# Altium schematic symbol library Asis OT Library.SchLib: 356 symbols (part 1 of 3)
Pins are listed as number, name and electrical type; pins without a type are passive.

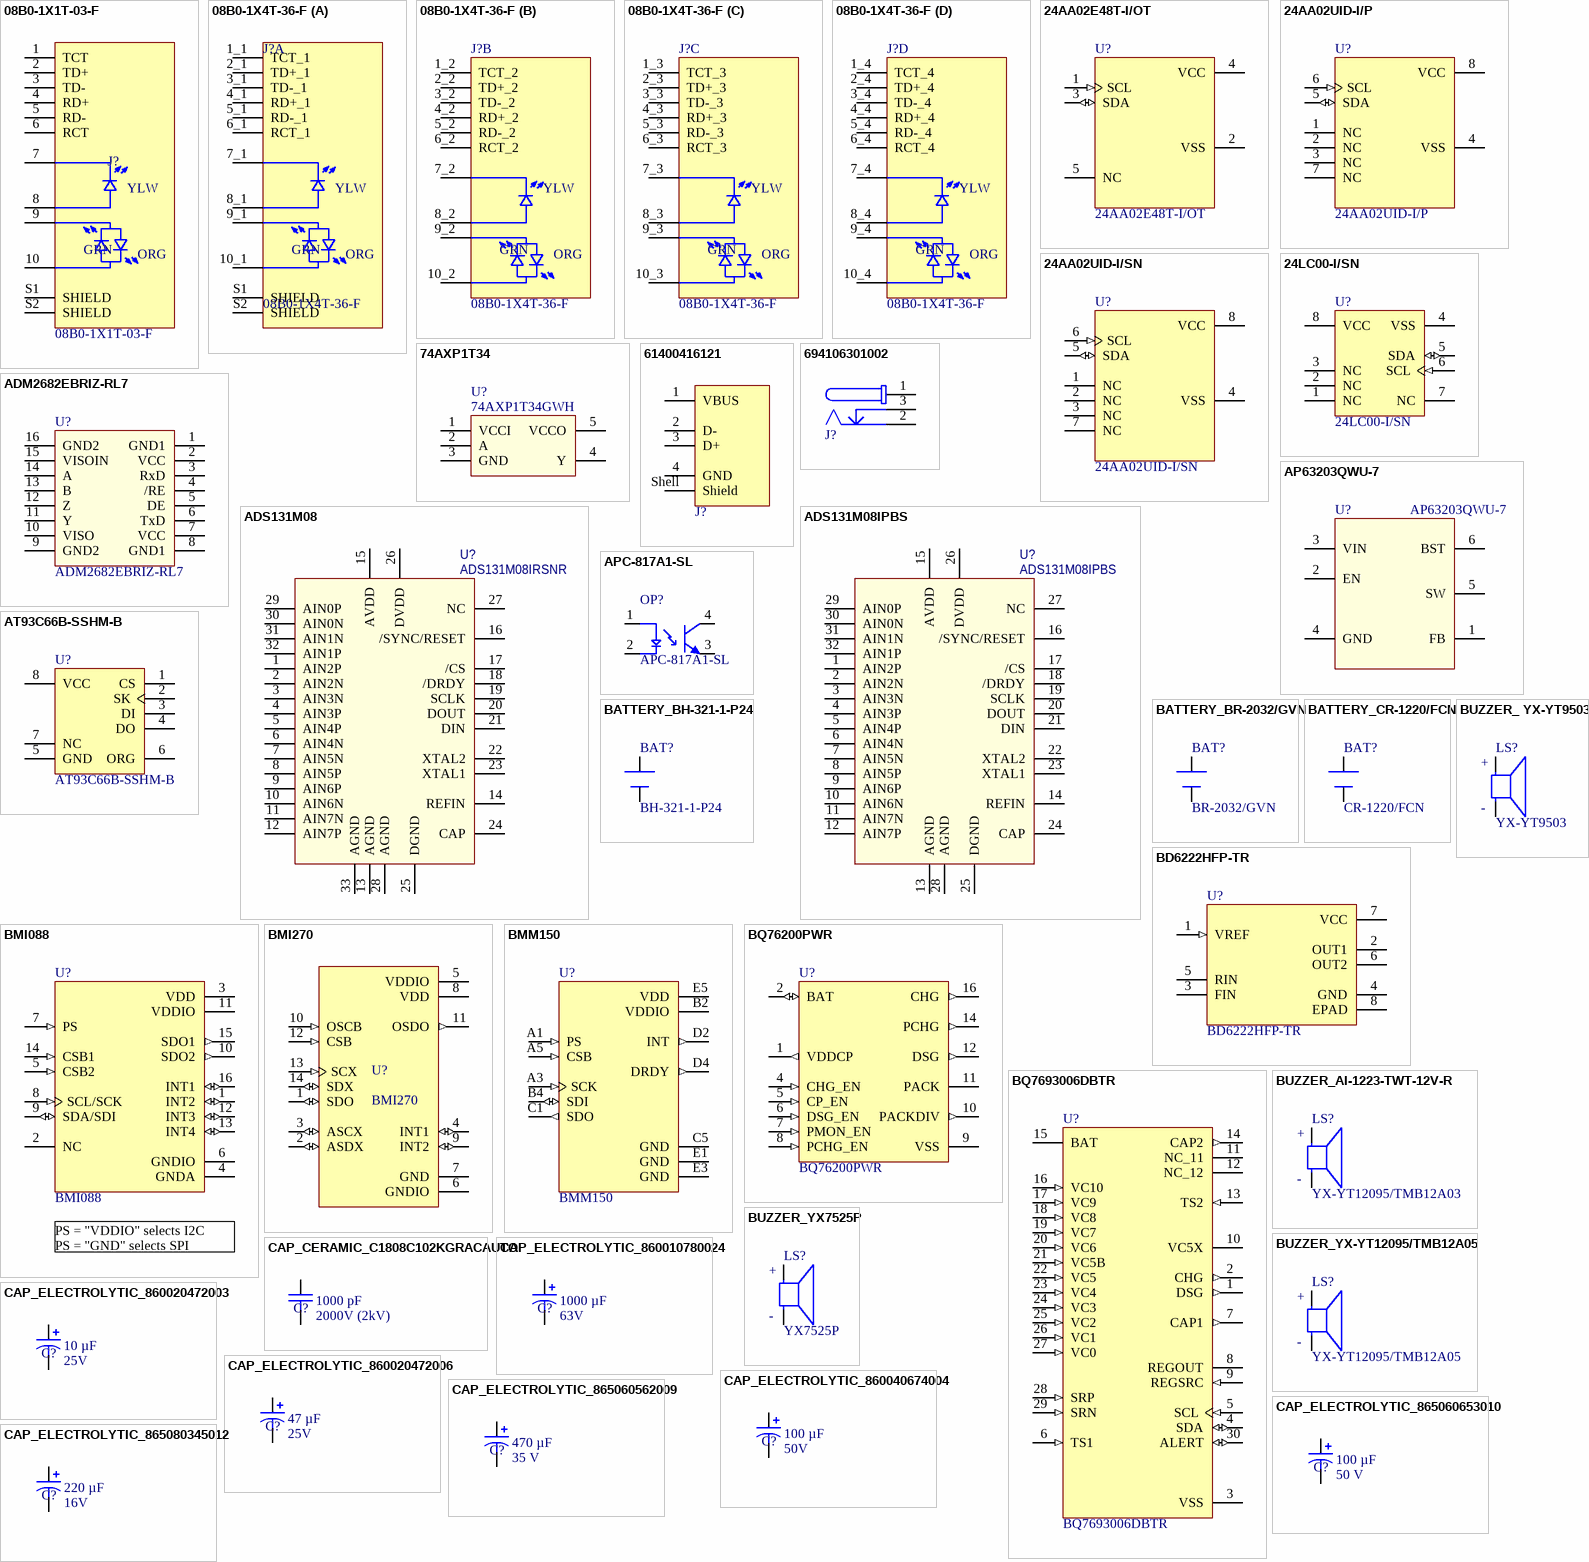
[diagram p0: symbols 08B0-1X1T-03-F to CAP_ELECTROLYTIC_865080345012]

## 08B0-1X1T-03-F
designator J?
CONN JACK 1PORT 100 BASE-T PCB; Manufacturer: Bel Fuse Inc.; Manufacturer Part Number: 08B0-1X1T-03-F; LCSC Part: 08B0-1X1T-03-F
footprint BEL_08B0-1X1T-03-F
pins: 1 TCT, 2 TD+, 3 TD-, 4 RD+, 5 RD-, 6 RCT, 7, 8, 9, 10, S1 SHIELD, S2 SHIELD
text: YLW; GRN; ORG

## 08B0-1X4T-36-F
designator J?
CONN JACK 4PORT 100 BASE-T PCB; Manufacturer: Bel Fuse Inc.; Manufacturer Part Number: 08B0-1X4T-36-F
footprint BEL_08B0-1X4T-36-F
part A pins: 1_1 TCT_1, 2_1 TD+_1, 3_1 TD-_1, 4_1 RD+_1, 5_1 RD-_1, 6_1 RCT_1, 7_1, 8_1, 9_1, 10_1, S1 SHIELD, S2 SHIELD
part B pins: 1_2 TCT_2, 2_2 TD+_2, 3_2 TD-_2, 4_2 RD+_2, 5_2 RD-_2, 6_2 RCT_2, 7_2, 8_2, 9_2, 10_2
part C pins: 1_3 TCT_3, 2_3 TD+_3, 3_3 TD-_3, 4_3 RD+_3, 5_3 RD-_3, 6_3 RCT_3, 7_3, 8_3, 9_3, 10_3
part D pins: 1_4 TCT_4, 2_4 TD+_4, 3_4 TD-_4, 4_4 RD+_4, 5_4 RD-_4, 6_4 RCT_4, 7_4, 8_4, 9_4, 10_4
part A text: YLW; GRN; ORG
part B text: YLW; GRN; ORG
part C text: YLW; GRN; ORG
part D text: YLW; GRN; ORG

## 24AA02E48T-I/OT
designator U?
IC EEPROM 2KBIT I2C SOT23-5; Manufacturer: Microchip Technology; Manufacturer Part Number: 24AA02E48T-I/OT
footprint SOT-23-5 (SC-74A, SOT-753)
pins: 1 SCL (in), 2 VSS (power), 3 SDA (io), 4 VCC (power), 5 NC

## 24AA02UID-I/P
designator U?
IC EEPROM 2KBIT I2C 400KHZ 8DIP; Manufacturer: Microchip Technology; Manufacturer Part Number: 24AA02UID-I/P
footprint 8-DIP (8-DIP (0.300", 7.62mm))
pins: 1 NC, 2 NC, 3 NC, 4 VSS (power), 5 SDA (io), 6 SCL (in), 7 NC, 8 VCC (power)

## 24AA02UID-I/SN
designator U?
IC EEPROM 2KBIT I2C 400KHZ 8SOIC; Manufacturer: Microchip Technology; Manufacturer Part Number: 24AA02UID-I/SN
footprint SOIC-8 (0.154", 3.90mm Width)
pins: 1 NC, 2 NC, 3 NC, 4 VSS (power), 5 SDA (io), 6 SCL (in), 7 NC, 8 VCC (power)

## 24LC00-I/SN
designator U?
IC EEPROM 128B I2C 400KHZ 8SOIC; Manufacturer: Microchip Technology; Manufacturer Part Number: 24LC00-I/SN; LCSC Part: C184928
footprint SOIC-8 (0.154", 3.90mm Width)
pins: 1 NC, 2 NC, 3 NC, 4 VSS (power), 5 SDA (io), 6 SCL (in), 7 NC, 8 VCC (power)

## 74AXP1T34
designator U?, comment 74AXP1T34GWH
IC TRANSLATOR UNIDIR 5TSSOP; Manufacturer: Nexperia USA Inc.; Manufacturer Part Number: 74AXP1T34GWH; LCSC Part: C546385
footprint SOT-353 (5-TSSOP, SC-70-5)
pins: 1 VCCI, 2 A, 3 GND, 4 Y, 5 VCCO

## 61400416121
designator J?  (value not drawn)
WR-COM USB 2.0 Horizontal THT; Manufacturer: Wurth Elektronik; Gender: Receptacle; Interface Type: Type B; Rated Current: 1.5A; Working Voltage: 30V (AC); Manufacturer Part Number: 61400416121; ComponentLink2URL: https://www.we-online.com/redexpert/spec/61400416121?ad; Application: USB 2.0
footprint 61400416121 (USB 2.0 Type B Horizontal)
pins: 1 VBUS, 2 D-, 3 D+, 4 GND, Shell Shield

## 694106301002
designator J?  (value not drawn)
WR-DC DC Power Jack Connector, Male, Right Angled, 24V, 5A; Manufacturer: Wurth Elektronik; Plug Inner Diameter: 2.05mm; Plug Outer Diameter: 5.5mm; Manufacturer Part Number: 694106301002; Rated Current: 5A; Working Voltage: 24V
footprint 694106301002 (DC Power Jack Right Angled(6.4))
pins: 1, 2, 3

## ADM2682EBRIZ-RL7
designator U?
DGTL ISO 5KV RS422/RS485 16SOIC; Manufacturer: Analog Devices Inc.; Manufacturer Part Number: ADM2682EBRIZ-RL7; LCSC Part: C579189
footprint SOIC-16 ((0.295", 7.50mm Width))
pins: 1 GND1, 2 VCC, 3 RxD, 4 /RE, 5 DE, 6 TxD, 7 VCC, 8 GND1, 9 GND2, 10 VISO, 11 Y, 12 Z, 13 B, 14 A, 15 VISOIN, 16 GND2

## ADS131M08
designator U?, comment ADS131M08IRSNR
IC ANALOG TO DIGITAL CONVERTER; Manufacturer: Texas Instruments; Manufacturer Part Number: ADS131M08IRSNR
footprint 32-QFN (4x4)
pins: 1 AIN2P, 2 AIN2N, 3 AIN3N, 4 AIN3P, 5 AIN4P, 6 AIN4N, 7 AIN5N, 8 AIN5P, 9 AIN6P, 10 AIN6N, 11 AIN7N, 12 AIN7P, 13 AGND, 14 REFIN, 15 AVDD, 16 /SYNC/RESET, 17 /CS, 18 /DRDY, 19 SCLK, 20 DOUT, 21 DIN, 22 XTAL2, 23 XTAL1, 24 CAP, 25 DGND, 26 DVDD, 27 NC, 28 AGND, 29 AIN0P, 30 AIN0N, 31 AIN1N, 32 AIN1P, 33 AGND

## ADS131M08IPBS
designator U?
IC ANALOG TO DIGITAL CONVERTER; Manufacturer: Texas Instruments; Manufacturer Part Number: ADS131M08IPBS; LCSC Part: C2685451
footprint 32-TQFP (32-TQFP (5x5))
footprint 32-TQFP CUSTOM (32-TQFP (5x5))
pins: 1 AIN2P, 2 AIN2N, 3 AIN3N, 4 AIN3P, 5 AIN4P, 6 AIN4N, 7 AIN5N, 8 AIN5P, 9 AIN6P, 10 AIN6N, 11 AIN7N, 12 AIN7P, 13 AGND, 14 REFIN, 15 AVDD, 16 /SYNC/RESET, 17 /CS, 18 /DRDY, 19 SCLK, 20 DOUT, 21 DIN, 22 XTAL2, 23 XTAL1, 24 CAP, 25 DGND, 26 DVDD, 27 NC, 28 AGND, 29 AIN0P, 30 AIN0N, 31 AIN1N, 32 AIN1P

## AP63203QWU-7
designator U?
IC REG BUCK 3.3V 2A TSOT26 TR 3K; Manufacturer: Diodes Incorporated; Manufacturer Part Number: AP63203QWU-7
footprint TSOT-23-6 (SOT-23-6 Thin, TSOT-23-6)
pins: 1 FB, 2 EN, 3 VIN, 4 GND (power), 5 SW, 6 BST

## APC-817A1-SL
designator OP?
OPTOISOLATOR 5KV 1CH TRANS 4SMD; Manufacturer: American Bright Optoelectronics Corporation; Manufacturer Part Number: APC-817A1-SL; LCSC Part: C17227514
footprint 4-SMD Gullwing
pins: 1 A, 2 C, 3 ET, 4 CT

## AT93C66B-SSHM-B
designator U?
IC EEPROM 4KBIT 3-WIRE 8SOIC; Manufacturer: Microchip Technology; Manufacturer Part Number: AT93C66B-SSHM-B; LCSC Part: C615516
footprint SOIC-8 (0.154", 3.90mm Width)
pins: 1 CS, 2 SK (power), 3 DI, 4 DO (power), 5 GND, 6 ORG, 7 NC, 8 VCC

## BATTERY_BH-321-1-P24
designator BAT?, comment BH-321-1-P24
Battery Holder (Open) AA 2 Cell PC Pin; Manufacturer: Altınkaya; Manufacturer Part Number: BH-321-1-P24
footprint BH-321-1-P24
pins: 1 +, 2 -

## BATTERY_BR-2032/GVN
designator BAT?, comment BR-2032/GVN
BATTERY LITHIUM 3V COIN 20MM; Manufacturer: Panasonic - BSG; Manufacturer Part Number: BR-2032/GVN
footprint BATTERY_CR2032_VERTICAL
pins: 1 +, 2 -

## BATTERY_CR-1220/FCN
designator BAT?, comment CR-1220/FCN
BATTERY LITHIUM 3V COIN 12.5MM; Manufacturer: Panasonic - BSG; Manufacturer Part Number: CR-1220/FCN
footprint BATTERY_CR1220_VERTICAL
pins: 1 +, 2 -

## BD6222HFP-TR
designator U?
IC HALF BRIDGE DRIVER 2A HRP7; Manufacturer: Rohm Semiconductor; Manufacturer Part Number: BD6222HFP-TR; Datasheet: https://www.rohm.com/datasheet?p=BD6222HFP&dist=Digi-key&media=referral&source=digi-key.com&campaign=Digi-key
footprint HRP-7 (HRP-7 (7 Leads + Tab))
pins: 1 VREF (in), 2 OUT1 (power), 3 FIN, 4 GND, 5 RIN, 6 OUT2, 7 VCC, 8 EPAD

## BMI088
designator U?
ACCELEROMETER 16LGA; Manufacturer: Bosch Sensortec; Manufacturer Part Number: BMI088
footprint 16-LGA (4.5x3)
pins: 1 INT2 (io), 2 NC, 3 VDD (power), 4 GNDA (power), 5 CSB2 (in), 6 GNDIO (power), 7 PS (in), 8 SCL/SCK (in), 9 SDA/SDI (io), 10 SDO2 (out), 11 VDDIO (power), 12 INT3 (io), 13 INT4 (io), 14 CSB1 (in), 15 SDO1 (out), 16 INT1 (io)
text: PS = "VDDIO" selects I2C / PS = "GND" selects SPI /

## BMI270
designator U?
IMU ACCEL/GYRO I2C/SPI 14LGA; Manufacturer: Bosch Sensortec; LCSC Part: C2836813; Manufacturer Part Number: BMI270
footprint 14-VFLGA (14-LGA (2.5x3))
pins: 1 SDO (io), 2 ASDX (io), 3 ASCX (io), 4 INT1 (io), 5 VDDIO (power), 6 GNDIO (power), 7 GND (power), 8 VDD (power), 9 INT2 (io), 10 OSCB (in), 11 OSDO (out), 12 CSB (in), 13 SCX (in), 14 SDX (io)

## BMM150
designator U?
SENSOR FLIPCORE/HALL SPI 12WLCSP; Manufacturer: Bosch Sensortec; Manufacturer Part Number: BMM150; LCSC Part: C171681
footprint 12-WLCSP (1.56x1.56) (12-UFBGA, WLCSP)
pins: A1 PS (in), A3 SCK (in), A5 CSB (in), B2 VDDIO (power), B4 SDI (io), C1 SDO (out), C5 GND (power), D2 INT (out), D4 DRDY (out), E1 GND (power), E3 GND (power), E5 VDD (power)

## BQ76200PWR
designator U?
IC BATT PROT MULTI 3-16C 16TSSOP; Manufacturer: Texas Instruments; LCSC Part: C216213; Manufacturer Part Number: BQ76200PWR
footprint 16-TSSOP (16-TSSOP (0.173", 4.40mm Width))
pins: 1 VDDCP (out), 2 BAT (io), 4 CHG_EN (in), 5 CP_EN (in), 6 DSG_EN (in), 7 PMON_EN (in), 8 PCHG_EN (in), 9 VSS (power), 10 PACKDIV (out), 11 PACK (power), 12 DSG (out), 14 PCHG (out), 16 CHG (out)

## BQ7693006DBTR
designator U?
IC BATT MON MULTI 6-10C 30TSSOP; Manufacturer: Texas Instruments; Manufacturer Part Number: BQ7693006DBTR; LCSC Part: C2876923
footprint 30-TFSOP (Footprint not found)
pins: 1 DSG (out), 2 CHG (out), 3 VSS (power), 4 SDA (io), 5 SCL (in), 6 TS1 (in), 7 CAP1 (out), 8 REGOUT (power), 9 REGSRC (in), 10 VC5X (power), 11 NC_11, 12 NC_12, 13 TS2 (in), 14 CAP2 (out), 15 BAT (power), 16 VC10 (in), 17 VC9 (in), 18 VC8 (in), 19 VC7 (in), 20 VC6 (in), 21 VC5B (in), 22 VC5 (in), 23 VC4 (in), 24 VC3 (in), 25 VC2 (in), 26 VC1 (in), 27 VC0 (in), 28 SRP (in), 29 SRN (in), 30 ALERT (io)

## BUZZER_ YX-YT9503
designator LS?, comment YX-YT9503
BUZZER MAGNETIC 3V 9MM TH; Manufacturer: YXDZ; Technology: Magnetic; Manufacturer Part Number: YX-YT9503
footprint BUZZER_ YX-YT9503 (9.00x5.50)
pins: N NEG, P POS
text: +; -

## BUZZER_AI-1223-TWT-12V-R
designator LS?, comment YX-YT12095/TMB12A03
BUZZER MAGNETIC 3V 12MM TH; Manufacturer: YXDZ; Manufacturer Part Number: YX-YT12095/TMB12A03; Datasheet: https://cdn.ozdisan.com/ETicaret_Dosya/481354_7974359.pdf; Technology: Magnetic; LCSC Part: C252936
footprint BUZZER_XDCR_AI-1223-TWT-12V-R (Footprint not found)
pins: N NEG, P POS
text: +; -

## BUZZER_YX7525P
designator LS?, comment YX7525P
BUZZER MAGNETIC 3V 12MM TH; Manufacturer: YXDZ; Datasheet: https://cdn.ozdisan.com/ETicaret_Dosya/481354_7974359.pdf; Technology: Magnetic; Manufacturer Part Number: YX7525P
footprint BUZZER_YX7525P (7.50x7.50)
pins: N NEG, P POS
text: +; -

## BUZZER_YX-YT12095/TMB12A05
designator LS?, comment YX-YT12095/TMB12A05
BUZZER MAGNETIC 5V 12MM TH; Manufacturer: YXDZ; Manufacturer Part Number: YX-YT12095/TMB12A05; Datasheet: https://ozdisan.com/elektromekanik-komponentler/ses-urunleri/buzzerlar/YX-YT12095TMB12A05/481355; Technology: Magnetic; LCSC Part: C96491
footprint BUZZER_XDCR_AI-1223-TWT-12V-R (12.00x9.50)
pins: N NEG, P POS
text: +; -

## CAP_CERAMIC_C1808C102KGRACAUTO
designator C?, comment Capacitance: 1000 pF  Voltage - Rated: 2000V (2kV)  (hidden comment: C1808C102KGRACAUTO)
CAP CER 1000PF 2KV X7R 1808; Manufacturer: KEMET; Manufacturer Part Number: C1808C102KGRACAUTO; Datasheet: https://connect.kemet.com:7667/gateway/IntelliData-ComponentDocumentation/1.0/download/datasheet/C1808C102KGRACAUTO
footprint CAP_1808 (0.185" L x 0.079" W (4.70mm x 2.00mm))
pins: 1, 2

## CAP_ELECTROLYTIC_860010780024
designator C?, comment Capacitance: 1000 µF  Voltage - Rated: 63V  (hidden comment: 860010780024)
CAP ALUM 1000UF 20% 63V RADIAL; Manufacturer: Würth Elektronik; Manufacturer Part Number: 860010780024; Datasheet: https://www.we-online.com/katalog/datasheet/860010780024.pdf; LCSC Part: C371299
footprint ELECTROLYTIC_D16H25 (Aluminum Electrolytic Capacitors, 16x25mm)
pins: 1, 2

## CAP_ELECTROLYTIC_860020472003
designator C?, comment Capacitance: 10 µF  Voltage - Rated: 25V  (hidden comment: 860020472003)
CAP ALUM 10UF 20% 25V RADIAL; Manufacturer: Würth Elektronik; Manufacturer Part Number: 860020472003; Datasheet: https://www.we-online.com/katalog/datasheet/860020472006.pdf
footprint ELECTROLYTIC_D5H11 (Aluminum Electrolytic Capacitors, 5x11mm)
pins: 1, 2

## CAP_ELECTROLYTIC_860020472006
designator C?, comment Capacitance: 47 µF  Voltage - Rated: 25V  (hidden comment: 860020472006)
CAP ALUM 47UF 20% 25V RADIAL; Manufacturer: Würth Elektronik; Manufacturer Part Number: 860020472006; Datasheet: https://www.we-online.com/katalog/datasheet/860020472006.pdf
footprint ELECTROLYTIC_D5H11 (Aluminum Electrolytic Capacitors, 5x11mm)
pins: 1, 2

## CAP_ELECTROLYTIC_860040674004
designator C?, comment Capacitance: 100 µF  Voltage - Rated: 50V  (hidden comment: 860040674004)
CAP ALUM 100UF 20% 50V RADIAL; Manufacturer: Würth Elektronik; Manufacturer Part Number: 860040674004
footprint Electrolytic_D8H11.5_THT (Aluminum Electrolytic Capacitors, 8x11.5mm)
pins: 1, 2

## CAP_ELECTROLYTIC_865060562009
designator C?, comment Capacitance: 470 µF  Voltage - Rated: 35 V  (hidden comment: 865060562009)
CAP ALUM 470UF 20% 35V SMD; Manufacturer: Würth Elektronik; Manufacturer Part Number: 865060562009; Datasheet: https://www.we-online.com/katalog/datasheet/865060562009.pdf; LCSC Part: C2940687
footprint Electrolytic_D12.5H14 (Aluminium Electrolytic V-Chip SMT Capacitors, 12.5x14mm)
pins: 1, 2

## CAP_ELECTROLYTIC_865060653010
designator C?, comment Capacitance: 100 µF  Voltage - Rated: 50 V  (hidden comment: 865060653010)
CAP ALUM 100UF 20% 50V SMD; Manufacturer: Würth Elektronik; Manufacturer Part Number: 865060653010; Datasheet: https://www.we-online.com/katalog/datasheet/865080657018.pdf; LCSC Part: C5354995
footprint Electrolytic_D8H10.5 (Aluminium Electrolytic V-Chip SMT Capacitors, 8x10.5mm)
pins: 1, 2

## CAP_ELECTROLYTIC_865080345012
designator C?, comment Capacitance: 220 µF  Voltage - Rated: 16V  (hidden comment: 865080345012)
CAP ALUM 220UF 20% 16V SMD; Manufacturer: Würth Elektronik; Manufacturer Part Number: 865080345012; LCSC Part: C125979
footprint ELECTROLYTIC_D6.3H7.7 (Aluminium Electrolytic V-Chip SMT Capacitors, 6.3x7.7mm)
pins: 1, 2

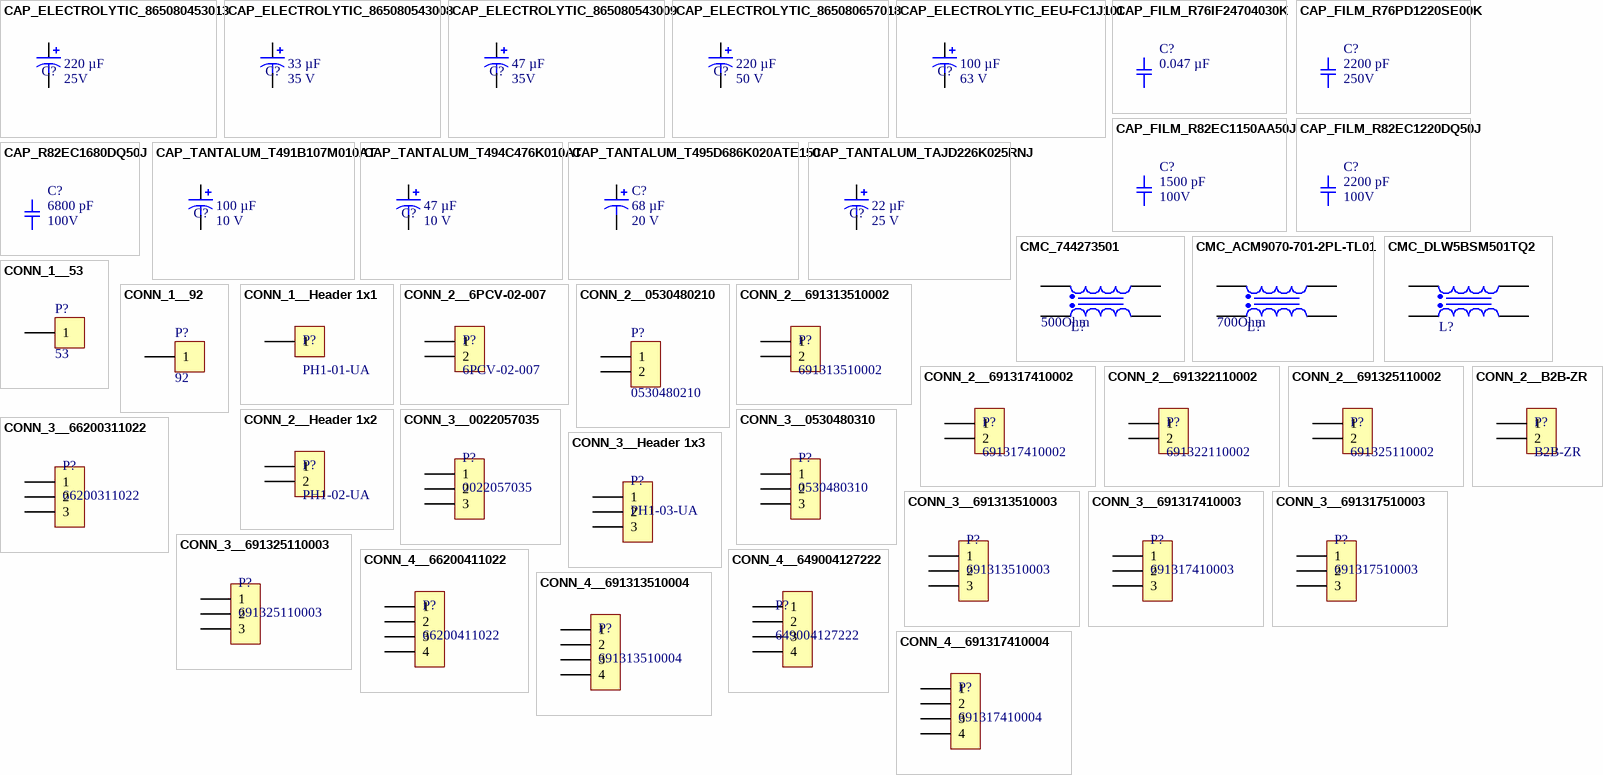
[diagram p1: symbols CAP_ELECTROLYTIC_865080453013 to CONN_4__691317410004]

## CAP_ELECTROLYTIC_865080453013
designator C?, comment Capacitance: 220 µF  Voltage - Rated: 25V  (hidden comment: 865080453013)
CAP ALUM 220UF 20% 25V SMD; Manufacturer: Würth Elektronik; Manufacturer Part Number: 865080453013; LCSC Part: C2164224
footprint Electrolytic_D8H6.5 (Footprint not found)
pins: 1, 2

## CAP_ELECTROLYTIC_865080543008
designator C?, comment Capacitance: 33 µF  Voltage - Rated: 35 V  (hidden comment: 865080543008)
CAP ALUM 33UF 20% 35V SMD; Manufacturer: Würth Elektronik; Manufacturer Part Number: 865080543008; Datasheet: https://www.we-online.com/katalog/datasheet/865080657018.pdf
footprint Electrolytic_D6.3H5.5 (Aluminium Electrolytic V-Chip SMT Capacitors, 6.3x5.5mm)
pins: 1, 2

## CAP_ELECTROLYTIC_865080543009
designator C?, comment Capacitance: 47 µF  Voltage - Rated: 35V  (hidden comment: 865080543009)
CAP ALUM 47UF 20% 35V SMD; Manufacturer: Würth Elektronik; Manufacturer Part Number: 865080543009; LCSC Part: C2162926
footprint ELECTROLYTIC_D6.3H6.1 (Aluminium Electrolytic V-Chip SMT Capacitors, 6.3x6.1mm)
pins: 1, 2

## CAP_ELECTROLYTIC_865080657018
designator C?, comment Capacitance: 220 µF  Voltage - Rated: 50 V  (hidden comment: 865080657018)
CAP ALUM 220UF 20% 50V SMD; Manufacturer: Würth Elektronik; Manufacturer Part Number: 865080657018; Datasheet: https://www.we-online.com/katalog/datasheet/865080657018.pdf; LCSC Part: C5354991
footprint Electrolytic_D10H10.5 (Aluminium Electrolytic V-Chip SMT Capacitors, 10x10.5mm)
pins: 1, 2

## CAP_ELECTROLYTIC_EEU-FC1J101
designator C?, comment Capacitance: 100 µF  Voltage - Rated: 63 V  (hidden comment: EEU-FC1J101)
CAP ALUM 100UF 20% 63V RADIAL; Manufacturer: Panasonic Electronic Components; Manufacturer Part Number: EEU-FC1J101; Datasheet: https://industrial.panasonic.com/ww/products/pt/aluminum-cap-lead/models/EEUFC1J101; LCSC Part: C324038
footprint Electrolytic_5mmx10mmx12.5mm
pins: 1, 2

## CAP_FILM_R76IF24704030K
designator C?, comment Capacitance: 0.047 µF  (hidden comment: R76IF24704030K)
CAP FILM 0.047UF 10% 250VDC RAD; Manufacturer: KEMET; Voltage - Rated: 250V; Manufacturer Part Number: R76IF24704030K; LCSC Part: C7037570
footprint FILM_13x5mm (Height 0.437" (11.10mm))
pins: 1, 2

## CAP_FILM_R76PD1220SE00K
designator C?, comment Capacitance: 2200 pF  Voltage - Rated: 250V  (hidden comment: R76PD1220SE00K)
CAP FILM 2200PF 10% 630VDC RAD; Manufacturer: KEMET; Manufacturer Part Number: R76PD1220SE00K; Datasheet: https://connect.kemet.com:7667/gateway/IntelliData-ComponentDocumentation/1.0/download/datasheet/R76PD1220SE00K; LCSC Part: C3806613
footprint FILM_10mmx3mm_7.5mm
pins: 1, 2

## CAP_FILM_R82EC1150AA50J
designator C?, comment Capacitance: 1500 pF  Voltage - Rated: 100V  (hidden comment: R82EC1150AA50J)
CAP FILM 1500PF 5% 100VDC RADIAL; Manufacturer: KEMET; Manufacturer Part Number: R82EC1150AA50J; LCSC Part: C3771887
footprint FILM_7.2mmx2.5mm_5mm
pins: 1, 2

## CAP_FILM_R82EC1220DQ50J
designator C?, comment Capacitance: 2200 pF  Voltage - Rated: 100V  (hidden comment: R82EC1220DQ50J)
CAP FILM 2200PF 5% 100VDC RADIAL; Manufacturer: KEMET; Manufacturer Part Number: R82EC1220DQ50J; LCSC Part: C600452
footprint FILM_7.2mmx2.5mm_5mm
pins: 1, 2

## CAP_R82EC1680DQ50J
designator C?, comment Capacitance: 6800 pF  Voltage - Rated: 100V  (hidden comment: R82EC1680DQ50J)
CAP FILM 6800PF 5% 100VDC RAD; Manufacturer: KEMET; Manufacturer Part Number: R82EC1680DQ50J; LCSC Part: C3777810
footprint FILM_7.2mmx2.5mm_5mm
pins: 1, 2

## CAP_TANTALUM_T491B107M010AT
designator C?, comment Capacitance: 100 µF  Voltage - Rated: 10 V  (hidden comment: T491B107M010AT)
CAP TANT 100UF 20% 10V 1411; Manufacturer: KEMET; Manufacturer Part Number: T491B107M010AT
footprint Tantalum_1411 (0.138" L x 0.110" W (3.50mm x 2.80mm))
pins: 1, 2

## CAP_TANTALUM_T494C476K010AT
designator C?, comment Capacitance: 47 µF  Voltage - Rated: 10 V  (hidden comment: T494C476K010AT)
CAP TANT 47UF 10% 10V 2312; Manufacturer: KEMET; Manufacturer Part Number: T494C476K010AT; Datasheet: https://connect.kemet.com:7667/gateway/IntelliData-ComponentDocumentation/1.0/download/datasheet/T494C476K010AT; LCSC Part: C1953355
footprint Tantalum_2312 (Tantalium Capacitors - 6032 - Case C)
pins: 1, 2

## CAP_TANTALUM_T495D686K020ATE150
designator C?, comment Capacitance: 68 µF  Voltage - Rated: 20 V  (hidden comment: T495D686K020ATE150)
CAP TANT 68UF 10% 20V 2917; Manufacturer: KEMET; Manufacturer Part Number: T495D686K020ATE150; LCSC Part: C1952808
footprint TANTALUM_2917 (0.287" L x 0.169" W (7.30mm x 4.30mm))
pins: 1, 2

## CAP_TANTALUM_TAJD226K025RNJ
designator C?, comment Capacitance: 22 µF  Voltage - Rated: 25 V  (hidden comment: TAJD226K025RNJ)
CAP TANT 22UF 10% 25V 2917; Manufacturer: KYOCERA AVX; Manufacturer Part Number: TAJD226K025RNJ; LCSC Part: C27642
footprint TANTALUM_2917 (0.287" L x 0.169" W (7.30mm x 4.30mm))
pins: 1, 2

## CMC_744273501
designator L?, comment Impedance: 500Ohm  (hidden comment: 744273501)
CMC 5UH 5A 2LN 500 OHM SMD; Manufacturer: Wurth Elektronik; Rated Voltage: 80V; Category: Common Mode Chokes; Manufacturer Part Number: 744273501; Inductance: 5uH; Rated Current: 5A; LCSC Part: C2651123
footprint CMC_L9.5W8.3H5 (SMD Inductor, Body 8,3x9,5mm)
pins: 1, 2, 3, 4

## CMC_ACM9070-701-2PL-TL01
designator L?, comment Impedance: 700Ohm  (hidden comment: ACM9070-701-2PL-TL01)
CMC 5A 2LN 700 OHM SMD; Manufacturer: TDK Corporation; Rated Voltage: 80V; Category: Common Mode Chokes; Manufacturer Part Number: ACM9070-701-2PL-TL01; Rated Current: 5A
footprint CMC_L9W7H4.5 (0.354" L x 0.276" W (9.00mm x 7.00mm))
pins: 1, 2, 3, 4

## CMC_DLW5BSM501TQ2
designator L?, comment DLW5BSM501TQ2  (value not drawn)
CMC 1A 2LN 500 OHM SMD; Manufacturer: Murata Electronics; Manufacturer Part Number: DLW5BSM501TQ2
footprint CMC_L5x0H5x0 (Footprint not found)
pins: 1, 2, 3, 4

## CONN_1__53
designator P?, comment 53
BATT CONT CLIP A/AA 1 CEL PC PIN; Manufacturer: Keystone Electronics; Manufacturer Part Number: 53
footprint Keystone_53 (Footprint not found)
pins: 1

## CONN_1__92
designator P?, comment 92
BATT CONT CLIP A/AA 1 CEL PC PIN; Manufacturer: Keystone Electronics; Manufacturer Part Number: 92
footprint Keystone_92 (Footprint not found)
pins: 1

## CONN_1__Header 1x1
designator P?, comment PH1-01-UA
CONN HEADER VERT 1POS 2.54MM; Manufacturer: Adam Tech; Manufacturer Part Number: PH1-01-UA
footprint Header 1x1 long (2.54mm)
pins: 1

## CONN_2__6PCV-02-007
designator P?, comment 6PCV-02-007
CONN BARRIER STRIP 2CIRC 0.375"; Manufacturer: TE Connectivity AMP Connectors; Manufacturer Part Number: 6PCV-02-007
footprint 6PCV-02-007
pins: 1, 2

## CONN_2__0530480210
designator P?, comment 0530480210
CONN HEADER R/A 2POS 1.25MM; Manufacturer: Molex; Manufacturer Part Number: 0530480210
footprint 53048-0210
pins: 1, 2

## CONN_2__691313510002
designator P?, comment 691313510002
TERM BLOCK HDR 2POS 90DEG 5.08MM; Manufacturer: Würth Elektronik; Manufacturer Part Number: 691313510002
footprint 691313510002 (5,08mm - PCB Headers - Horizontal - Closed ends - 02p)
pins: 1, 2

## CONN_2__691317410002
designator P?, comment 691317410002
7.62 MM TERMINAL BLOCK HEADER, H; Manufacturer: Würth Elektronik; Manufacturer Part Number: 691317410002
footprint 691317410002 (7.62 mm - Closed Horizonal PCB Header with Flanges - 2p)
pins: 1, 2

## CONN_2__691322110002
designator P?, comment 691322110002
TERM BLOCK HDR 2POS 90DEG 3.5MM; Manufacturer: Würth Elektronik; Manufacturer Part Number: 691322110002
footprint 691322110002 (Horizontal PCB Header, pitch 3.5mm, 02p)
pins: 1, 2

## CONN_2__691325110002
designator P?, comment 691325110002
3.50 MM TERMINAL BLOCK HEADER, H; Manufacturer: Würth Elektronik; Manufacturer Part Number: 691325110002
footprint 691325110002 (Horizontal PCB Header with Flanges, pitch 3.5mm, 02p)
pins: 1, 2

## CONN_2__B2B-ZR
designator P?, comment B2B-ZR
CONN HEADER VERT 2POS 1.5MM; Manufacturer: JST Sales America Inc.; Manufacturer Part Number: B2B-ZR
footprint Header 1x2 MALE 1.5mm (1.5mm)
pins: 1, 2

## CONN_2__Header 1x2
designator P?, comment PH1-02-UA
CONN HEADER VERT 2POS 2.54MM; Manufacturer: Adam Tech; Manufacturer Part Number: PH1-02-UA
footprint Header 1x2 MALE (2.54mm)
pins: 1, 2

## CONN_3__0022057035
designator P?, comment 0022057035
CONN HEADER R/A 3POS 2.5MM; Manufacturer: Molex; Manufacturer Part Number: 0022057035
footprint 0022057035 (Footprint not found)
pins: 1, 2, 3

## CONN_3__0530480310
designator P?, comment 0530480310
CONN HEADER R/A 3POS 1.25MM; Manufacturer: Molex; Manufacturer Part Number: 0530480310
footprint 53048-0310
pins: 1, 2, 3

## CONN_3__66200311022
designator P?, comment 66200311022
WR-MPC3 MICRO POWER CONNECTORS 3; Manufacturer: Würth Elektronik; Manufacturer Part Number: 66200311022
footprint 66200311022 (3.00mm Male Single Row Angled Header with Plastic Pegs, 3p)
pins: 1, 2, 3

## CONN_3__691313510003
designator P?, comment 691313510003
TERM BLOCK HDR 3POS 90DEG 5.08MM; Manufacturer: Würth Elektronik; Manufacturer Part Number: 691313510003
footprint 691313510003 (5,08mm - PCB Headers - Horizontal - Closed ends - 03p)
pins: 1, 2, 3

## CONN_3__691317410003
designator P?, comment 691317410003
7.62 MM TERMINAL BLOCK HEADER, H; Manufacturer: Würth Elektronik; Manufacturer Part Number: 691317410003
footprint 691317410003 (7.62 mm - Closed Horizonal PCB Header with Flanges - 3p)
pins: 1, 2, 3

## CONN_3__691317510003
designator P?, comment 691317510003
5.08 MM TERMINAL BLOCK HEADER, H; Manufacturer: Würth Elektronik; Manufacturer Part Number: 691317510003
footprint 691317510003 (5,08mm - PCB Horizontal Closed With flanges - 03p)
pins: 1, 2, 3

## CONN_3__691325110003
designator P?, comment 691325110003
3.50 MM TERMINAL BLOCK HEADER, H; Manufacturer: Würth Elektronik; Manufacturer Part Number: 691325110003
footprint 691325110003 (Horizontal PCB Header with Flanges, pitch 3.5mm, 03p)
pins: 1, 2, 3

## CONN_3__Header 1x3
designator P?, comment PH1-03-UA
CONN HEADER VERT 3POS 2.54MM; Manufacturer: Adam Tech; Manufacturer Part Number: PH1-03-UA
footprint Header 1x3 male (2.54mm)
pins: 1, 2, 3

## CONN_4__66200411022
designator P?, comment 66200411022
WR-MPC3 MICRO POWER CONNECTORS 3.00MM; Manufacturer: Würth Elektronik; Manufacturer Part Number: 66200411022
footprint 66200411022 (3.00mm Male Single Row Angled Header with Plastic Pegs, 4p)
pins: 1, 2, 3, 4

## CONN_4__649004127222
designator P?, comment 649004127222
CONN HEADER R/A 4POS 4.2MM; Manufacturer: Würth Elektronik; Manufacturer Product Number: 649004127222
footprint Header 1x4 male (2.54mm)
footprint 649004127222 (4.20mm Male Single Row Angled Header with Mounting Pegs, 4p)
pins: 1, 2, 3, 4

## CONN_4__691313510004
designator P?, comment 691313510004
TERM BLOCK HDR 4POS 90DEG 5.08MM; Manufacturer: Würth Elektronik; Manufacturer Part Number: 691313510004
footprint 691313510004 (5,08mm - PCB Headers - Horizontal - Closed ends - 04p)
pins: 1, 2, 3, 4

## CONN_4__691317410004
designator P?, comment 691317410004
7.62 MM TERMINAL BLOCK HEADER, H; Manufacturer: Würth Elektronik; Manufacturer Part Number: 691317410004
footprint 691317410004 (7.62 mm - Closed Horizonal PCB Header with Flanges - 4p)
pins: 1, 2, 3, 4

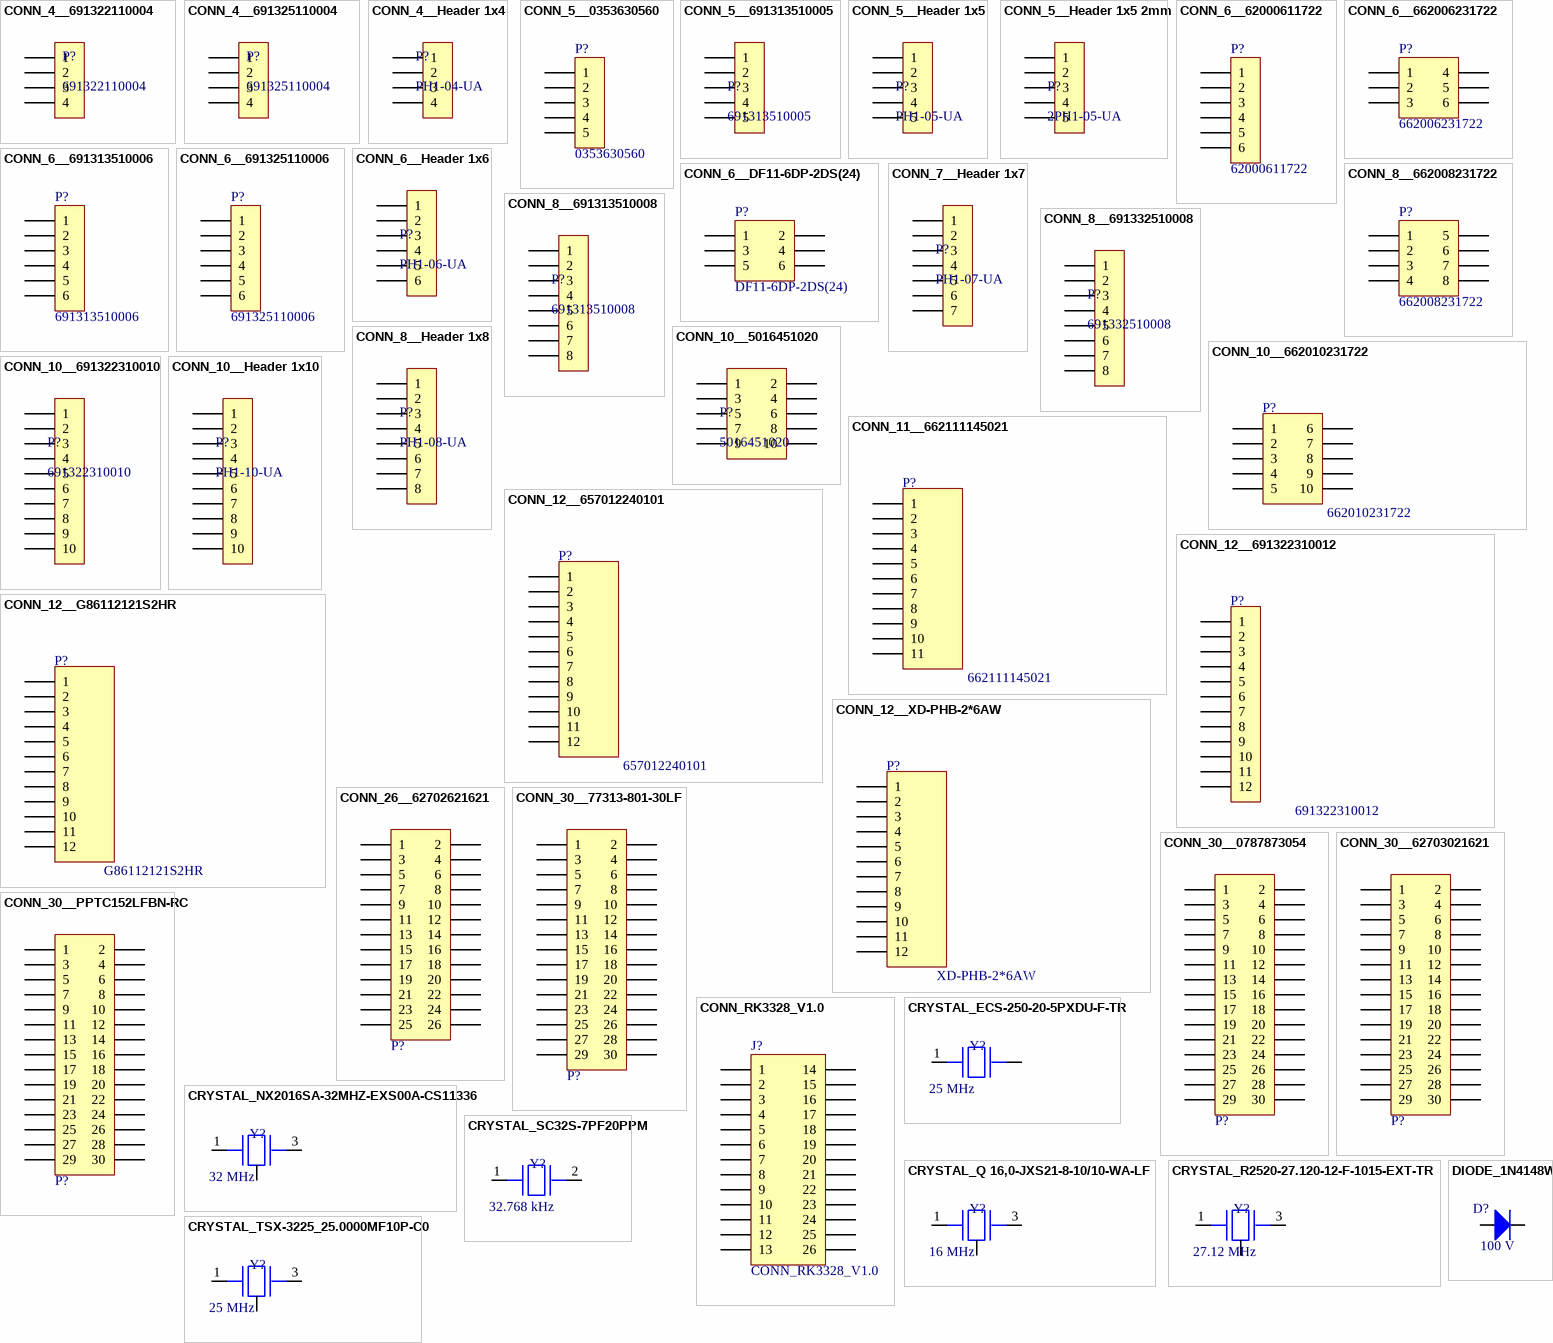
[diagram p2: symbols CONN_4__691322110004 to DIODE_1N4148W]

## CONN_4__691322110004
designator P?, comment 691322110004
TERM BLOCK HDR 4POS 90DEG 3.5MM; Manufacturer: Würth Elektronik; Manufacturer Part Number: 691322110004
footprint 691322110004 (Horizontal PCB Header, pitch 3.5mm, 04p)
pins: 1, 2, 3, 4

## CONN_4__691325110004
designator P?, comment 691325110004
3.50 MM TERMINAL BLOCK HEADER, H; Manufacturer: Würth Elektronik; Manufacturer Part Number: 691325110004
footprint 691325110004 (Footprint not found)
pins: 1, 2, 3, 4

## CONN_4__Header 1x4
designator P?, comment PH1-04-UA
CONN HEADER VERT 4POS 2.54MM; Manufacturer: Adam Tech; Manufacturer Part Number: PH1-04-UA
footprint Header 1x4 male (2.54mm)
footprint Header 1x4 male rightangle
pins: 1, 2, 3, 4

## CONN_5__0353630560
designator P?, comment 0353630560
CONN HEADER R/A 5POS 2MM; Manufacturer: Molex; Manufacturer Part Number: 0353630560; LCSC Part: C505202
footprint 0353630560
pins: 1, 2, 3, 4, 5

## CONN_5__691313510005
designator P?, comment 691313510005
TERM BLOCK HDR 5POS 90DEG 5.08MM; Manufacturer: Würth Elektronik; Manufacturer Product Number: 691313510005
footprint 691313510005 (5,08mm - PCB Headers - Horizontal - Closed ends - 05p)
pins: 1, 2, 3, 4, 5

## CONN_5__Header 1x5
designator P?, comment PH1-05-UA
CONN HEADER VERT 5POS 2.54MM; Manufacturer: Adam Tech; Manufacturer Part Number: PH1-05-UA
footprint Header 1x5 male (2.54mm)
pins: 1, 2, 3, 4, 5

## CONN_5__Header 1x5 2mm
designator P?, comment 2PH1-05-UA
CONN HEADER VERT 5POS 2MM; Manufacturer: Adam Tech; Manufacturer Part Number: 2PH1-05-UA
footprint HEADER 1x5 MALE 2MM (Pin Header, pitch 2.00 mm, THT, Vertical, single row, 5p)
pins: 1, 2, 3, 4, 5

## CONN_6__62000611722
designator P?, comment 62000611722
WR-WTB WIRE-TO-BOARD CONNECTORS; Manufacturer: Würth Elektronik; Manufacturer Part Number: 62000611722
footprint 62000611722 (2.00mm Male Horizontal Shrouded Header, 6p)
pins: 1, 2, 3, 4, 5, 6

## CONN_6__662006231722
designator P?, comment 662006231722
CONN HEADER SMD R/A 6POS 3MM; Manufacturer: Würth Elektronik; Manufacturer Part Number: 662006231722
footprint 662006231722 (3.00mm SMT Male Dual Row Angled Header with SMT Solder Tab, 6p)
pins: 1, 2, 3, 4, 5, 6

## CONN_6__691313510006
designator P?, comment 691313510006
TERM BLOCK HDR 6POS 90DEG 5.08MM; Manufacturer: Würth Elektronik; Manufacturer Part Number: 691313510006
footprint 691313510006 (5,08mm - PCB Headers - Horizontal - Closed ends - 06p)
pins: 1, 2, 3, 4, 5, 6

## CONN_6__691325110006
designator P?, comment 691325110006
3.50 MM TERMINAL BLOCK HEADER, H; Manufacturer: Würth Elektronik; Manufacturer Part Number: 691325110006
footprint 691325110006 (Horizontal PCB Header with Flanges, pitch 3.5mm, 06p)
pins: 1, 2, 3, 4, 5, 6

## CONN_6__DF11-6DP-2DS(24)
designator P?, comment DF11-6DP-2DS(24)
CONN HEADER R/A 6POS 2MM; Manufacturer: Hirose Electric Co Ltd; Manufacturer Part Number: DF11-6DP-2DS(24)
footprint DF11-6DP-2DS(24)
pins: 1, 2, 3, 4, 5, 6

## CONN_6__Header 1x6
designator P?, comment PH1-06-UA
CONN HEADER VERT 6POS 2.54MM; Manufacturer: Adam Tech; Manufacturer Part Number: PH1-06-UA
footprint Header 1x6 male (2.54mm)
pins: 1, 2, 3, 4, 5, 6

## CONN_7__Header 1x7
designator P?, comment PH1-07-UA
CONN HEADER VERT 7POS 2.54MM; Manufacturer: Adam Tech; Manufacturer Part Number: PH1-07-UA
footprint Header 1x7 male (2.54mm)
pins: 1, 2, 3, 4, 5, 6, 7

## CONN_8__662008231722
designator P?, comment 662008231722
CONN HEADER SMD R/A 8POS 3MM; Manufacturer: Würth Elektronik; Manufacturer Part Number: 662008231722
footprint 662008231722 (3.00mm SMT Male Dual Row Angled Header with SMT Solder Tab, 8p)
pins: 1, 2, 3, 4, 5, 6, 7, 8

## CONN_8__691313510008
designator P?, comment 691313510008
TERM BLOCK HDR 8POS 90DEG 5.08MM; Manufacturer: Würth Elektronik; Manufacturer Part Number: 691313510008
footprint 691313510008 (5,08mm - PCB Headers - Horizontal - Closed ends - 08p)
pins: 1, 2, 3, 4, 5, 6, 7, 8

## CONN_8__691332510008
designator P?, comment 691332510008
5.08 MM TERMINAL BLOCK HEADER, D; Manufacturer: Würth Elektronik; Manufacturer Part Number: 691332510008
footprint 691332510008 (5,08mm - PCB - Dual row - Horizontal - Flanges - 08p)
pins: 1, 2, 3, 4, 5, 6, 7, 8

## CONN_8__Header 1x8
designator P?, comment PH1-08-UA
CONN HEADER VERT 8POS 2.54MM; Manufacturer: Adam Tech; Manufacturer Part Number: PH1-08-UA
footprint Header 1x8 male (2.54mm)
pins: 1, 2, 3, 4, 5, 6, 7, 8

## CONN_10__5016451020
designator P?, comment 5016451020
CONN HEADER VERT 10POS 2MM; Manufacturer: Molex; Manufacturer Part Number: 5016451020
footprint 5016451020
pins: 1, 2, 3, 4, 5, 6, 7, 8, 9, 10

## CONN_10__662010231722
designator P?, comment 662010231722
CONN HEADER SMD R/A 10POS 3MM; Manufacturer: Würth Elektronik; Manufacturer Part Number: 662010231722
footprint 662010231722 (3.00mm SMT Male Dual Row Angled Header with SMT Solder Tab, 10p)
pins: 1, 2, 3, 4, 5, 6, 7, 8, 9, 10

## CONN_10__691322310010
designator P?, comment 691322310010
3.81 MM TERMINAL BLOCK HEADER, H; Manufacturer: Würth Elektronik; Manufacturer Part Number: 691322310010
footprint 691322310010 (Horizontal PCB Header, pitch 3.81mm, 10p)
pins: 1, 2, 3, 4, 5, 6, 7, 8, 9, 10

## CONN_10__Header 1x10
designator P?, comment PH1-10-UA
CONN HEADER VERT 10POS 2.54MM; Manufacturer: Adam Tech; Manufacturer Part Number: PH1-10-UA
footprint Header 1x10 male (2.54mm)
pins: 1, 2, 3, 4, 5, 6, 7, 8, 9, 10

## CONN_11__662111145021
designator P?, comment 662111145021
CONN HEADER SMD R/A 11POS 3MM; Manufacturer: Würth Elektronik; Manufacturer Part Number: 662111145021
footprint 662111145021 (3.00mm Male Single Row Angled Header, 11p)
pins: 1, 2, 3, 4, 5, 6, 7, 8, 9, 10, 11

## CONN_12__657012240101
designator P?, comment 657012240101
WR-MPC5 MEGA POWER CONNECTORS 5.; Manufacturer: Würth Elektronik; Manufacturer Part Number: 657012240101
footprint 657012240101 (Dual Row Male Header Right Angled, GW, THT, 12p)
pins: 1, 2, 3, 4, 5, 6, 7, 8, 9, 10, 11, 12

## CONN_12__691322310012
designator P?, comment 691322310012
3.81 MM TERMINAL BLOCK HEADER, H; Manufacturer: Würth Elektronik; Manufacturer Part Number: 691322310012
footprint 691322310012 (Horizontal PCB Header, pitch 3.81mm, 12p)
pins: 1, 2, 3, 4, 5, 6, 7, 8, 9, 10, 11, 12

## CONN_12__G86112121S2HR
designator P?, comment G86112121S2HR
CONN HEADER SMD R/A 12POS 2MM; Manufacturer: Amphenol ICC (Commercial Products); Manufacturer Part Number: G86112121S2HR
footprint G86112121S2HR (Footprint not found)
pins: 1, 2, 3, 4, 5, 6, 7, 8, 9, 10, 11, 12

## CONN_12__XD-PHB-2*6AW
designator P?, comment XD-PHB-2*6AW
CONN HEADER SMD R/A 12POS 2MM; Manufacturer: chxunda; Manufacturer Part Number: XD-PHB-2*6AW; LCSC Part: C17700547
footprint G86112121S2HR (Footprint not found)
pins: 1, 2, 3, 4, 5, 6, 7, 8, 9, 10, 11, 12

## CONN_26__62702621621
designator P?, comment 62702621621  (value not drawn)
WR-BHD 1.27MM MALE BOX HEADER; Manufacturer: Wurth Elektronik; Manufacturer Part Number: 62702621621
footprint 62702621621 (1.27x1.27mm Pitch Box Header Straight Type, 26p)
pins: 1, 2, 3, 4, 5, 6, 7, 8, 9, 10, 11, 12, 13, 14, 15, 16, 17, 18, 19, 20, 21, 22, 23, 24, 25, 26

## CONN_30__77313-801-30LF
designator P?, comment 77313-801-30LF  (value not drawn)
CONN HEADER VERT 30POS 2.54MM; Manufacturer: Amphenol ICC (FCI); Manufacturer Part Number: 77313-801-30LF
footprint Header 2x15 male (2.54mm)
pins: 1, 2, 3, 4, 5, 6, 7, 8, 9, 10, 11, 12, 13, 14, 15, 16, 17, 18, 19, 20, 21, 22, 23, 24, 25, 26, 27, 28, 29, 30

## CONN_30__0787873054
designator P?, comment 0787873054  (value not drawn)
CONN RCPT 30POS 0.079 TIN PCB; Manufacturer: Molex; Manufacturer Part Number: 0787873054
footprint Header 2x15 famale 2MM (2mm)
pins: 1, 2, 3, 4, 5, 6, 7, 8, 9, 10, 11, 12, 13, 14, 15, 16, 17, 18, 19, 20, 21, 22, 23, 24, 25, 26, 27, 28, 29, 30

## CONN_30__62703021621
designator P?, comment 62703021621  (value not drawn)
WR-BHD 1.27MM MALE BOX HEADER; Manufacturer: Wurth Elektronik; Manufacturer Part Number: 62703021621
footprint 62703021621 (1.27x1.27mm Pitch Box Header Straight Type, 30p)
pins: 1, 2, 3, 4, 5, 6, 7, 8, 9, 10, 11, 12, 13, 14, 15, 16, 17, 18, 19, 20, 21, 22, 23, 24, 25, 26, 27, 28, 29, 30

## CONN_30__PPTC152LFBN-RC
designator P?, comment PPTC152LFBN-RC  (value not drawn)
CONN HDR 30POS 0.1 TIN PCB; Manufacturer: Sullins Connector Solutions; Manufacturer Part Number: PPTC152LFBN-RC
footprint Header 2x15 famale 2.54MM (2.54mm)
pins: 1, 2, 3, 4, 5, 6, 7, 8, 9, 10, 11, 12, 13, 14, 15, 16, 17, 18, 19, 20, 21, 22, 23, 24, 25, 26, 27, 28, 29, 30

## CONN_RK3328_V1.0
designator J?
Manufacturer: Asis Otomasyon; Manufacturer Part Number: CONN_RK3328_V1.0
footprint CONN_RK3328_V1.0
pins: 1, 2, 3, 4, 5, 6, 7, 8, 9, 10, 11, 12, 13, 14, 15, 16, 17, 18, 19, 20, 21, 22, 23, 24, 25, 26

## CRYSTAL_ECS-250-20-5PXDU-F-TR
designator Y?, comment Frequency: 25 MHz  (hidden comment: ECS-250-20-5PXDU-F-TR)
CRYSTAL 25.0000MHZ 20PF SMD; Manufacturer: ECS Inc.; Manufacturer Part Number: ECS-250-20-5PXDU-F-TR; Datasheet: https://ecsxtal.com/store/pdf/CSM_7X_DU.pdf; LCSC Part: C2450279
footprint OSC_SMD_HC-49/US (Crystal, 2-Leads, Body 4.70x11.40mm, Pitch 8.80mm, IPC Medium Density)
pins: 1, 2 (power)

## CRYSTAL_NX2016SA-32MHZ-EXS00A-CS11336
designator Y?, comment Frequency: 32 MHz  (hidden comment: NX2016SA-32MHZ-EXS00A-CS11336)
CRYSTAL 32.0000MHZ 8PF SMD; Manufacturer: NDK America, Inc.; Manufacturer Part Number: NX2016SA-32MHZ-EXS00A-CS11336; Datasheet: https://media.digikey.com/pdf/Data%20Sheets/NDK%20PDFs/NX2016SA-32MHz-EXS00A-CS11336.pdf; LCSC Part: C6134317; LCSC Part 2: C843260
footprint 4-SMD (0.126" L x 0.098" W (3.20mm x 2.50mm))
pins: 1, 2 GND (power), 3 2, 4 GND (power)

## CRYSTAL_Q 16,0-JXS21-8-10/10-WA-LF
designator Y?, comment Frequency: 16 MHz  (hidden comment: Q 16,0-JXS21-8-10/10-WA-LF)
CRYSTAL 16.0000MHZ 8PF SMD; Manufacturer: Jauch Quartz; Manufacturer Part Number: Q 16,0-JXS21-8-10/10-WA-LF; LCSC Part: C7294669
footprint CRYSTAL_4-SMD(2X1.6) (0.079" L x 0.063" W (2.00mm x 1.60mm))
pins: 1, 2 GND (power), 3 2, 4 GND (power)

## CRYSTAL_R2520-27.120-12-F-1015-EXT-TR
designator Y?, comment Frequency: 27.12 MHz  (hidden comment: R2520-27.120-12-F-1015-EXT-TR)
CRYSTAL 27.1200MHZ 12PF SMD; Manufacturer: Raltron Electronics; Manufacturer Part Number: R2520-27.120-12-F-1015-EXT-TR
footprint OSC_2.50mmX2.00mm (0.098" L x 0.079" W (2.50mm x 2.00mm))
pins: 1, 2 GND (power), 3 2, 4 GND (power)

## CRYSTAL_SC32S-7PF20PPM
designator Y?, comment Frequency: 32.768 kHz  (hidden comment: SC32S-7PF20PPM)
CRYSTAL 32.7680KHZ 7PF SMD; Manufacturer: Seiko Instruments; Manufacturer Part Number: SC32S-7PF20PPM; LCSC Part 2: C97604; LCSC Part: *
footprint 2-SMD, No Lead (0.126" L x 0.059" W (3.20mm x 1.50mm))
pins: 1, 2

## CRYSTAL_TSX-3225_25.0000MF10P-C0
designator Y?, comment Frequency: 25 MHz  (hidden comment: TSX-3225 25.0000MF10P-C0)
CRYSTAL 25.0000MHZ 18PF SMD; Manufacturer: EPSON; Manufacturer Part Number: TSX-3225 25.0000MF10P-C0; Datasheet: https://support.epson.biz/td/api/doc_check.php?dl=brief_TSX-3225&lang=en; LCSC Part: C179643
footprint 4-SMD (Footprint not found)
pins: 1, 2 GND (power), 3 2, 4 GND (power)

## DIODE_1N4148W
designator D?, comment Voltage - DC Reverse (Vr) (Max): 100 V  (hidden comment: 1N4148WS-HG3-08)
DIODE GEN PURP 100V 150MA SOD323; Manufacturer: Vishay General Semiconductor - Diodes Division; Manufacturer Part Number: 1N4148WS-HG3-08; Datasheet: https://www.mccsemi.com/pdf/Products/GS1A-L~GS1M-L(DO-214AC).pdf; Current - Average Rectified (Io): 150mA; LCSC Part: C3313072
footprint SOD-323 (SC-76, SOD-323)
pins: 1 K, 2 A

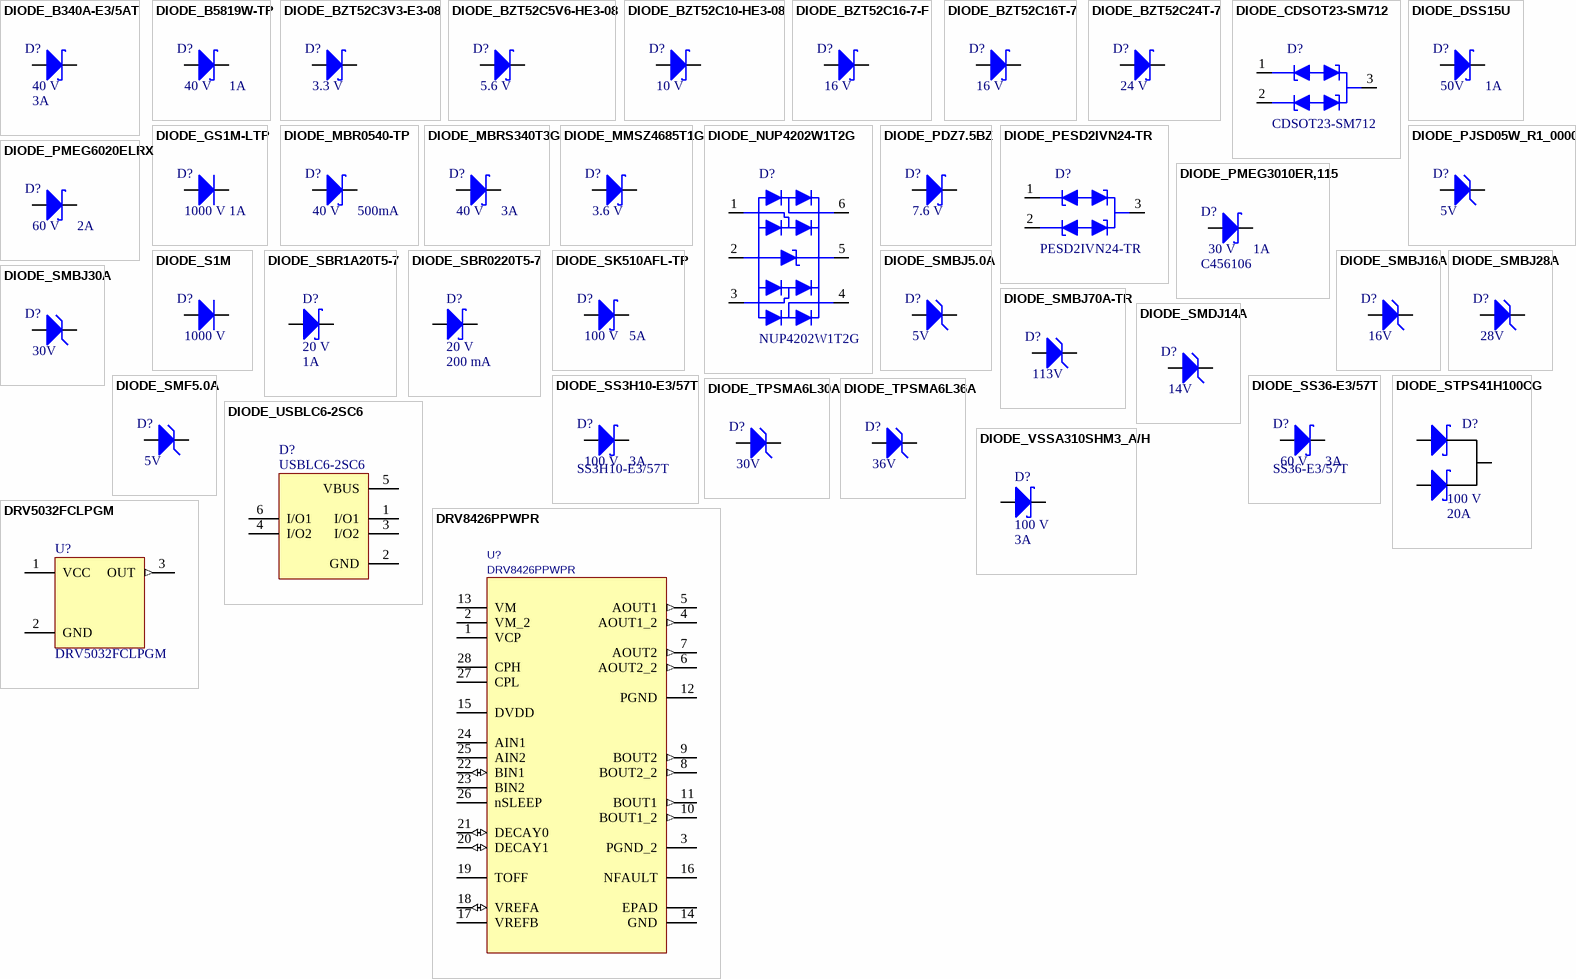
[diagram p3: symbols DIODE_B340A-E3/5AT to DRV8426PPWPR]

## DIODE_B340A-E3/5AT
designator D?, comment Voltage - DC Reverse (Vr) (Max): 40 V  Current - Average Rectified (Io): 3A  (hidden comment: B340A-E3/5AT)
DIODE SCHOTTKY 30V 1A SOD123W; Manufacturer: Vishay General Semiconductor - Diodes Division; Manufacturer Part Number: B340A-E3/5AT; LCSC Part: C15570
footprint DO-214AC (SMA)
pins: 1 K, 2 A

## DIODE_B5819W-TP
designator D?, comment Voltage - DC Reverse (Vr) (Max): 40 V  Current - Average Rectified (Io): 1A  (hidden comment: B5819W-TP)
DIODE SCHOTTKY 40V 1A SOD123; Manufacturer: Micro Commercial Co; Manufacturer Part Number: B5819W-TP; Datasheet: https://www.mccsemi.com/pdf/Products/B5817W-B5819W(SOD-123).pdf
footprint SOD-123
pins: 1 K, 2 A

## DIODE_BZT52C3V3-E3-08
designator D?, comment Voltage - Zener (Nom) (Vz): 3.3 V  (hidden comment: BZT52C3V3-E3-08)
DIODE ZENER 3.3V 410MW SOD123; Manufacturer: Vishay General Semiconductor - Diodes Division; Manufacturer Part Number: BZT52C3V3-E3-08; Datasheet: https://www.vishay.com/docs/86342/bzt52_series.pdf; Power - Max: 410 mW
footprint SOD-123W
pins: 1 K, 2 A

## DIODE_BZT52C5V6-HE3-08
designator D?, comment Voltage - Zener (Nom) (Vz): 5.6 V  (hidden comment: BZT52C5V6-HE3-08)
DIODE ZENER 5.6V 410MW SOD123; Manufacturer: Vishay General Semiconductor - Diodes Division; Manufacturer Part Number: BZT52C5V6-HE3-08; Datasheet: https://www.vishay.com/docs/86342/bzt52_series.pdf; Power - Max: 410 mW
footprint SOD-123W
pins: 1 K, 2 A

## DIODE_BZT52C10-HE3-08
designator D?, comment Voltage - Zener (Nom) (Vz): 10 V  (hidden comment: BZT52C10-HE3-08)
DIODE ZENER 10V 410MW SOD123; Manufacturer: Vishay General Semiconductor - Diodes Division; Manufacturer Part Number: BZT52C10-HE3-08; Datasheet: https://www.vishay.com/docs/86342/bzt52_series.pdf; Power - Max: 410 mW; LCSC Part: C3728418; LCSC Part 2: C2103
footprint SOD-123W
pins: 1 K, 2 A

## DIODE_BZT52C16-7-F
designator D?, comment Voltage - Zener (Nom) (Vz): 16 V  (hidden comment: BZT52C16-7-F)
DIODE ZENER 16V 500MW SOD123; Manufacturer: Diodes Incorporated; Manufacturer Part Number: BZT52C16-7-F; Power - Max: 500 mW
footprint SOD-123
pins: 1 K, 2 A

## DIODE_BZT52C16T-7
designator D?, comment Voltage - Zener (Nom) (Vz): 16 V  (hidden comment: BZT52C16T-7)
DIODE ZENER 16V 300MW SOD523; Manufacturer: Vishay General Semiconductor - Diodes Division; Manufacturer Part Number: BZT52C16T-7; Power - Max: 300 mW
footprint SOD-523 (SC-79, SOD-523)
pins: 1 K, 2 A

## DIODE_BZT52C24T-7
designator D?, comment Voltage - Zener (Nom) (Vz): 24 V  (hidden comment: BZT52C24T-7)
DIODE ZENER 24V 300MW SOD523; Manufacturer: Diodes Incorporated; Manufacturer Part Number: BZT52C24T-7; Power - Max: 300 mW; LCSC Part: C780794
footprint SOD-523 (SC-79, SOD-523)
pins: 1 K, 2 A

## DIODE_CDSOT23-SM712
designator D?, comment CDSOT23-SM712
TVS DIODE 7V/12V 14V/26V SOT23-3; Manufacturer: Bourns Inc.; Manufacturer Part Number: CDSOT23-SM712; Applications: RS-485; Datasheet: https://www.bourns.com/docs/Product-Datasheets/CDSOT23-SM712.pdf; LCSC Part: C404012
footprint SOT-23 (TO-236AB)
pins: 1 C1, 2 C2, 3 CC

## DIODE_DSS15U
designator D?, comment Voltage - DC Reverse (Vr) (Max): 50V  Current - Average Rectified (Io): 1A  (hidden comment: DSS15U)
DIODE SCHOTTKY 50V 1A SOD123FL; Manufacturer: SMC Diode Solutions; Manufacturer Part Number: DSS15U; LCSC Part: C3020461
footprint SOD123FL
pins: 1 K, 2 A

## DIODE_GS1M-LTP
designator D?, comment Voltage - DC Reverse (Vr) (Max): 1000 V  Current - Average Rectified (Io): 1A  (hidden comment: GS1M-LTP)
DIODE GEN PURP 1KV 1A DO214AC; Manufacturer: Micro Commercial Co; Manufacturer Part Number: GS1M-LTP; Datasheet: https://www.mccsemi.com/pdf/Products/GS1A-L~GS1M-L(DO-214AC).pdf; LCSC Part: C435833
footprint DO-214AC (SMA)
pins: 1 K, 2 A

## DIODE_MBR0540-TP
designator D?, comment Voltage - DC Reverse (Vr) (Max): 40 V  Current - Average Rectified (Io): 500mA  (hidden comment: MBR0540-TP)  (mechanical)
DIODE SCHOTTKY 40V 500MA SOD123; Manufacturer: Micro Commercial Co; Manufacturer Part Number: MBR0540-TP; LCSC Part: C232833
footprint SOD-123
pins: 1 K, 2 A

## DIODE_MBRS340T3G
designator D?, comment Voltage - DC Reverse (Vr) (Max): 40 V  Current - Average Rectified (Io): 3A  (hidden comment: MBRS340T3G)
DIODE SCHOTTKY 40V 3A SMC; Manufacturer: onsemi; Manufacturer Part Number: MBRS340T3G; LCSC Part: C40326
footprint DO-214AB (SMC)
pins: 1 K, 2 A

## DIODE_MMSZ4685T1G
designator D?, comment Voltage - Zener (Nom) (Vz): 3.6 V  (hidden comment: MMSZ4685T1G)
DIODE ZENER 3.6V 500MW SOD123; Manufacturer: onsemi; Manufacturer Part Number: MMSZ4685T1G; Power - Max: 500 mW; LCSC Part: C66886
footprint SOD-123
pins: 1 K, 2 A

## DIODE_NUP4202W1T2G
designator D?, comment NUP4202W1T2G
TVS DIODE 5VWM 14.5V SC88/SC70-6; Manufacturer: onsemi; Manufacturer Part Number: NUP4202W1T2G
footprint 6-TSSOP (6-TSSOP, SC-88, SOT-363)
pins: 1 I/O, 2 GND, 3 I/O, 4 I/O, 5 VCC, 6 I/O

## DIODE_PDZ7.5BZ
designator D?, comment Voltage - Zener (Nom) (Vz): 7.6 V  (hidden comment: PDZ7.5BZ)
DIODE ZENER 7.6V 400MW SOD323; Manufacturer: Nexperia USA Inc.; Manufacturer Part Number: PDZ7.5BZ; Power - Max: 400 mW; LCSC Part: C85404
footprint SOD-323 (SC-76, SOD-323)
pins: 1 K, 2 A

## DIODE_PESD2IVN24-TR
designator D?, comment PESD2IVN24-TR
TVS DIODE 24VWM 42VC TO236AB; Manufacturer: Nexperia USA Inc.; Manufacturer Part Number: PESD2IVN24-TR; Applications: Automotive, CAN; Datasheet: https://assets.nexperia.com/documents/data-sheet/PESD2IVN24-T.pdf
footprint SOT-23 (TO-236AB)
pins: 1 C1, 2 C2, 3 CC

## DIODE_PJSD05W_R1_00001
designator D?, comment Voltage - Reverse Standoff (Typ): 5V  (hidden comment: PJSD05W_R1_00001)
TVS DIODE 5VWM 9.8VC SOD323; Manufacturer: Panjit International Inc.; Manufacturer Part Number: PJSD05W_R1_00001
footprint SOD-323 (SC-76, SOD-323)
pins: 1 K, 2 A

## DIODE_PMEG3010ER,115
designator D?, comment Voltage - DC Reverse (Vr) (Max): 30 V  Current - Average Rectified (Io): 1A  LCSC Part: C456106  (hidden comment: PMEG3010ER,115)
DIODE SCHOTTKY 30V 1A SOD123W; Manufacturer: Nexperia USA Inc.; Manufacturer Part Number: PMEG3010ER,115; Datasheet: https://assets.nexperia.com/documents/data-sheet/PMEG3010ER.pdf
footprint SOD-123W
pins: 1 K, 2 A

## DIODE_PMEG6020ELRX
designator D?, comment Voltage - DC Reverse (Vr) (Max): 60 V  Current - Average Rectified (Io): 2A  (hidden comment: PMEG6020ELRX)
DIODE SCHOTTKY 60V 2A SOD123W; Manufacturer: Nexperia USA Inc.; Manufacturer Part Number: PMEG6020ELRX; Datasheet: https://assets.nexperia.com/documents/data-sheet/PMEG6020ELR.pdf
footprint SOD-123W
pins: 1 K, 2 A

## DIODE_S1M
designator D?, comment Voltage - DC Reverse (Vr) (Max): 1000 V  (hidden comment: S1M)
DIODE GEN PURP 1KV 1A SMA; Manufacturer: SMC Diode Solutions; Manufacturer Part Number: S1M; Current - Average Rectified (Io): 1A; LCSC Part: C232826
footprint DO-214AC (SMA)
pins: 1 K, 2 A

## DIODE_SBR1A20T5-7
designator D?, comment Voltage - DC Reverse (Vr) (Max): 20 V  Current - Average Rectified (Io): 1A  (hidden comment: SBR1A20T5-7)
DIODE SBR 20V 1A SOD523; Manufacturer: Diodes Incorporated; Manufacturer Part Number: SBR1A20T5-7; LCSC Part: C5157758
footprint SOD-523 (SC-79, SOD-523)
pins: 1 K, 2 A

## DIODE_SBR0220T5-7
designator D?, comment Voltage - DC Reverse (Vr) (Max): 20 V  Current - Average Rectified (Io): 200 mA  (hidden comment: SBR0220T5-7)
DIODE SBR 20V 200MA SOD523; Manufacturer: Diodes Incorporated; Manufacturer Part Number: SBR0220T5-7; LCSC Part: C700438
footprint SOD-523 (SC-79, SOD-523)
pins: 1 K, 2 A

## DIODE_SK510AFL-TP
designator D?, comment Voltage - DC Reverse (Vr) (Max): 100 V  Current - Average Rectified (Io): 5A  (hidden comment: SK510AFL-TP)
DIODE SCHOTTKY 100V 5A DO221AC; Manufacturer: Micro Commercial Co; Manufacturer Part Number: SK510AFL-TP; Datasheet: https://www.mccsemi.com/pdf/Products/SK52AFL-SK5200AFL(DO-221AC).pdf; LCSC Part: C5241914
footprint DO-221AC (SMA-FL)
pins: 1 K, 2 A

## DIODE_SMBJ5.0A
designator D?, comment Voltage - Reverse Standoff (Typ): 5V  (hidden comment: SMBJ5.0A)
TVS DIODE 5VWM 9.2VC DO214AA; Manufacturer: Littelfuse Inc.; Manufacturer Part Number: SMBJ5.0A; LCSC Part: C83333
footprint DO-214AA (SMBJ)
pins: 1 K, 2 A

## DIODE_SMBJ16A
designator D?, comment Voltage - Reverse Standoff (Typ): 16V  (hidden comment: SMBJ16A)
TVS DIODE 16VWM 26VC DO214AA; Manufacturer: Littelfuse Inc.; Manufacturer Part Number: SMBJ16A; Datasheet: https://www.littelfuse.com/~/media/electronics/datasheets/tvs_diodes/littelfuse_tvs_diode_smbj_datasheet.pdf.pdf; LCSC Part: C151254
footprint DO-214AA (SMBJ)
pins: 1 K, 2 A

## DIODE_SMBJ28A
designator D?, comment Voltage - Reverse Standoff (Typ): 28V  (hidden comment: SMBJ28A)
TVS DIODE 28VWM 45.4VC DO214AA; Manufacturer: Littelfuse Inc.; Manufacturer Part Number: SMBJ28A; LCSC Part: C178227
footprint DO-214AA (SMBJ)
pins: 1 K, 2 A

## DIODE_SMBJ30A
designator D?, comment Voltage - Reverse Standoff (Typ): 30V  (hidden comment: SMBJ30A)
TVS DIODE 30VWM 48.4VC DO214AA; Manufacturer: Littelfuse Inc.; Manufacturer Part Number: SMBJ30A; LCSC Part: C83851
footprint DO-214AA (SMBJ)
pins: 1 K, 2 A

## DIODE_SMBJ70A-TR
designator D?, comment Voltage - Reverse Standoff (Typ): 113V  (hidden comment: SMBJ70A-TR)
TVS DIODE 70VWM 113VC SMB; Manufacturer: STMicroelectronics; Manufacturer Part Number: SMBJ70A-TR
footprint DO-214AA (SMBJ)
pins: 1 K, 2 A

## DIODE_SMDJ14A
designator D?, comment Voltage - Reverse Standoff (Typ): 14V  (hidden comment: SMDJ14A)
TVS DIODE 14VWM 23.2VC DO214AB; Manufacturer: Littelfuse Inc.; Manufacturer Part Number: SMDJ14A; LCSC Part: C1975662
footprint DO-214AB (SMC)
pins: 1 K, 2 A

## DIODE_SMF5.0A
designator D?, comment Voltage - Reverse Standoff (Typ): 5V  (hidden comment: SMF5.0A)
TVS SOD123FL 5V 200W UNIDIR; Manufacturer: Littelfuse Inc.; Manufacturer Part Number: SMF5.0A
footprint SOD123FL
pins: 1 K, 2 A

## DIODE_SS3H10-E3/57T
designator D?, comment Voltage - DC Reverse (Vr) (Max): 100 V  Current - Average Rectified (Io): 3A  (hidden comment: SS3H10-E3/57T)
DIODE SCHOTTKY 100V 3A DO214AB; Manufacturer: Vishay General Semiconductor - Diodes Division; LCSC Part: C2927417; Manufacturer Part Number: SS3H10-E3/57T
footprint DO-214AB (SMC)
pins: 1 K, 2 A

## DIODE_SS36-E3/57T
designator D?, comment Voltage - DC Reverse (Vr) (Max): 60 V  Current - Average Rectified (Io): 3A  (hidden comment: SS36-E3/57T)
DIODE SCHOTTKY 60V 3A DO214AB; Manufacturer: Vishay General Semiconductor - Diodes Division; LCSC Part: C35722; Manufacturer Part Number: SS36-E3/57T
footprint DO-214AB (SMC)
pins: 1 K, 2 A

## DIODE_STPS41H100CG
designator D?, comment Voltage - DC Reverse (Vr) (Max): 100 V  Current - Average Rectified (Io): 20A  (hidden comment: STPS41H100CG)
DIODE ARR SCHOTT 100V 20A D2PAK; Manufacturer: STMicroelectronics; Manufacturer Part Number: STPS41H100CG; LCSC Part: C2970806
footprint PG-TO263-3 (TO-263-3, D2PAK (2 Leads + Tab), TO-263AB)
pins: 1 A, 2 K, 3 A

## DIODE_TPSMA6L30A
designator D?, comment Voltage - Reverse Standoff (Typ): 30V  (hidden comment: TPSMA6L30A)
TVS DIODE 30VWM 48.4VC DO221AC; Manufacturer: Littelfuse Inc.; Manufacturer Part Number: TPSMA6L30A; Datasheet: https://www.littelfuse.com/~/media/electronics/datasheets/tvs_diodes/littelfuse_tvs_diode_tpsma6l_datasheet.pdf.pdf
footprint DO-221AC (SMA-FL)
pins: 1 K, 2 A

## DIODE_TPSMA6L36A
designator D?, comment Voltage - Reverse Standoff (Typ): 36V  (hidden comment: TPSMA6L36A)
TVS DIODE 36VWM 58.1VC DO221AC; Manufacturer: Littelfuse Inc.; Manufacturer Part Number: TPSMA6L36A; Datasheet: https://www.littelfuse.com/~/media/electronics/datasheets/tvs_diodes/littelfuse_tvs_diode_tpsma6l_datasheet.pdf.pdf
footprint DO-221AC (SMA-FL)
pins: 1 K, 2 A

## DIODE_USBLC6-2SC6
designator D?, comment USBLC6-2SC6
TVS DIODE 5.25VWM 17VC SOT23-6; Manufacturer: STMicroelectronics; Voltage - Reverse Standoff (Typ): 5.25 V; Manufacturer Part Number: USBLC6-2SC6; Datasheet: https://www.st.com/content/ccc/resource/technical/document/datasheet/06/1d/48/9c/6c/20/4a/b2/CD00050750.pdf/files/CD00050750.pdf/jcr:content/translations/en.CD00050750.pdf; LCSC Part: C7519
footprint SOT-23-6
pins: 1 I/O1, 2 GND, 3 I/O2, 4 I/O2, 5 VBUS, 6 I/O1

## DIODE_VSSA310SHM3_A/H
designator D?, comment Voltage - DC Reverse (Vr) (Max): 100 V  Current - Average Rectified (Io): 3A  (hidden comment: VSSA310SHM3_A/H)
DIODE SCHOTTKY 100V 3A DO214AC; Manufacturer: Vishay General Semiconductor - Diodes Division; Manufacturer Part Number: VSSA310SHM3_A/H; Datasheet: https://www.vishay.com/docs/89405/vssa310s.pdf; LCSC Part: C282271
footprint DO-214AC (SMA)
pins: 1 K, 2 A

## DRV5032FCLPGM
designator U?
MAGNETIC SWITCH OMNIPOLAR TO92-3; Manufacturer: Texas Instruments; Manufacturer Part Number: DRV5032FCLPGM; LCSC Part: C2866256; LCSC Part 2: C2862715
footprint TO-92-3 (Footprint not found)
pins: 1 VCC (power), 2 GND (power), 3 OUT (out)

## DRV8426PPWPR
designator U?
35-V, 1.5-A BIPOLAR STEPPER OR D; Manufacturer: Texas Instruments; Manufacturer Part Number: DRV8426PPWPR; Datasheet: https://www.ti.com/general/docs/suppproductinfo.tsp?distId=10&gotoUrl=http%3A%2F%2Fwww.ti.com%2Flit%2Fgpn%2Fdrv8426e
footprint HTSSOP-28
pins: 1 VCP, 2 VM_2, 3 PGND_2 (power), 4 AOUT1_2 (out), 5 AOUT1 (out), 6 AOUT2_2 (out), 7 AOUT2 (out), 8 BOUT2_2 (out), 9 BOUT2 (out), 10 BOUT1_2 (out), 11 BOUT1 (out), 12 PGND (power), 13 VM, 14 GND (power), 15 DVDD (power), 16 NFAULT, 17 VREFB (power), 18 VREFA (io), 19 TOFF, 20 DECAY1 (io), 21 DECAY0 (io), 22 BIN1 (io), 23 BIN2, 24 AIN1, 25 AIN2, 26 nSLEEP, 27 CPL, 28 CPH, EPAD

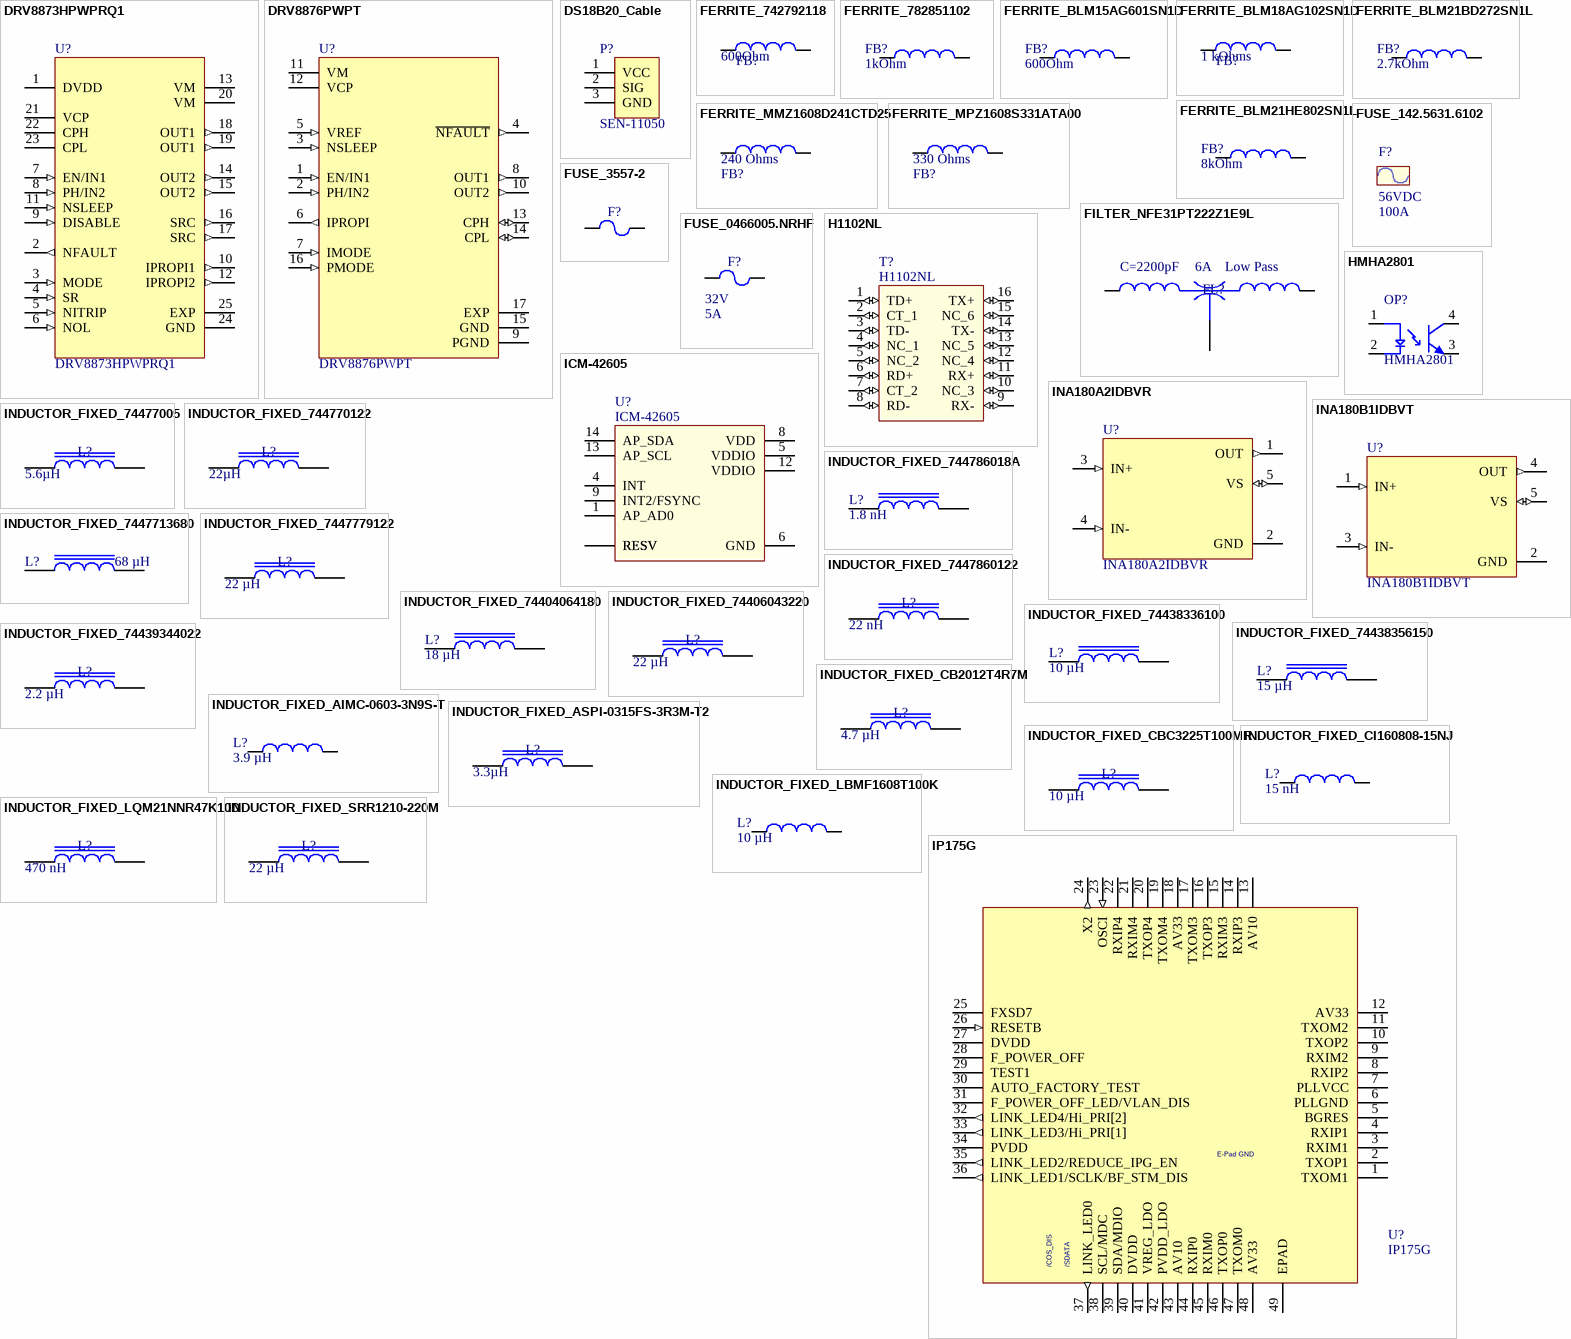
[diagram p4: symbols DRV8873HPWPRQ1 to IP175G]

## DRV8873HPWPRQ1
designator U?
IC MOTOR DRIVER STEP 5V 24HTSSOP; Manufacturer: Texas Instruments; Manufacturer Part Number: DRV8873HPWPRQ1; LCSC Part: C2150604
footprint 24-HTSSOP (24-PowerTSSOP (0.173", 4.40mm Width))
pins: 1 DVDD (power), 2 NFAULT (out), 3 MODE (in), 4 SR (in), 5 NITRIP (in), 6 NOL (in), 7 EN/IN1 (in), 8 PH/IN2 (in), 9 DISABLE (in), 10 IPROPI1 (out), 11 NSLEEP (in), 12 IPROPI2 (out), 13 VM (power), 14 OUT2 (out), 15 OUT2 (out), 16 SRC (out), 17 SRC (out), 18 OUT1 (out), 19 OUT1 (out), 20 VM (power), 21 VCP (power), 22 CPH (power), 23 CPL (power), 24 GND (power), 25 EXP